# EAGLE library part PIN6 (library My_BLE)
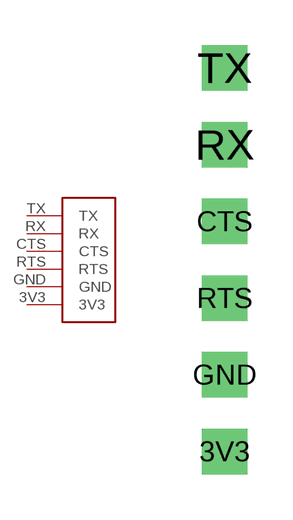
[diagram p2: symbol with the pads of PIN6; footprint PIN6]

Designator prefix -

## PIN6  [PIN6]
3V3  3V3
CTS  CTS
GND  GND
RTS  RTS
RX  RX
TX  TX

## Footprint PIN6 (pad centres in mm)
drill 1 square: 3V3 0,-7.62; CTS 0,0; GND 0,-5.08; RTS 0,-2.54; RX 0,2.54; TX 0,5.08